# Altium footprint library IC_Texas_Instruments_TPS79530DCQR_2.PcbLib: 1 footprints
Each footprint in its own frame and in the unit in brackets; x right, y up, seen from the top. Pads: shape width x height; smd on the part's side, far side on the other; paste and mask are expansions set on the pad; w line width, h text height; cw(c..) or ccw(c..) is an arc to the next point about the centre after c.
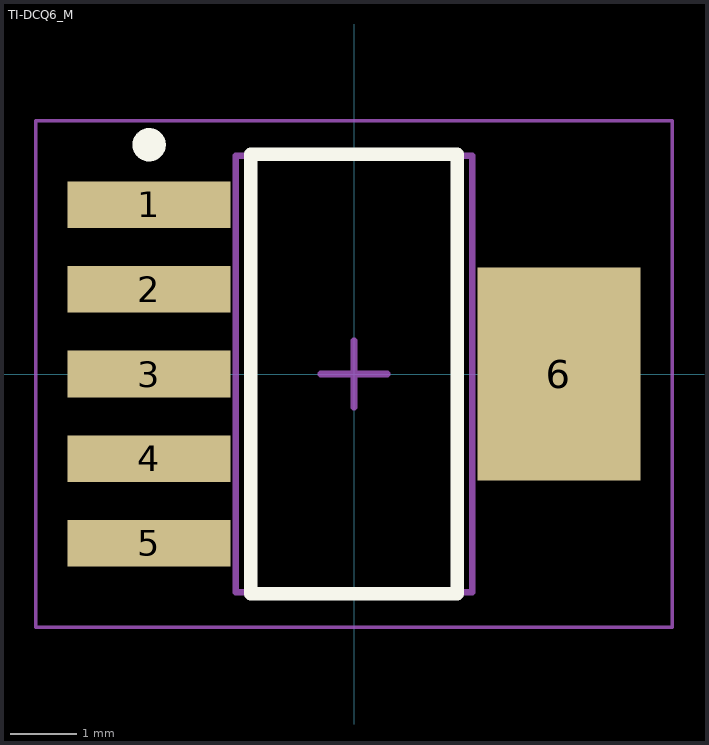
[diagram p0: the footprint, top view; thin cyan lines are the x and y axes]

## TI-DCQ6_M [mm] "SOT223, 6-Leads, Body 6.5x3.5mm, Pitch 1.27mm, IPC Low Density"
height 1.8
pads (6):
  rect 2.45x0.7 smd: 1(-3.075,2.54) 2(-3.075,1.27) 3(-3.075,0) 4(-3.075,-1.27) 5(-3.075,-2.54)
  rect 2.45x3.2 smd: 6(3.075,0)
Top Overlay:
  circle w0.25: c-3.075,3.44 r0.125
  lines w0.2: -1.55,-3.3 1.55,-3.3 1.55,3.3 -1.55,3.3 -1.55,-3.3
Mechanical 13:
  lines w0.1: -1.775,-3.275 1.775,-3.275 1.775,3.275 -1.775,3.275 -1.775,-3.275
Mechanical 15:
  lines w0.05: -4.775,-3.8 4.775,-3.8 4.775,3.8 -4.775,3.8 -4.775,-3.8
  lines w0.1: -0.5,0 0.5,0 ; 0,-0.5 0,0.5
3D body: height 1.8, standoff 0.02, extent -1.775,-3.275 1.775,3.275